# Altium footprint library SMP-MSLD-PCE-5T.PcbLib: 1 footprints
Each footprint in its own frame and in the unit in brackets; x right, y up, seen from the top. Pads: shape width x height; smd on the part's side, far side on the other; paste and mask are expansions set on the pad; w line width, h text height; cw(c..) or ccw(c..) is an arc to the next point about the centre after c.
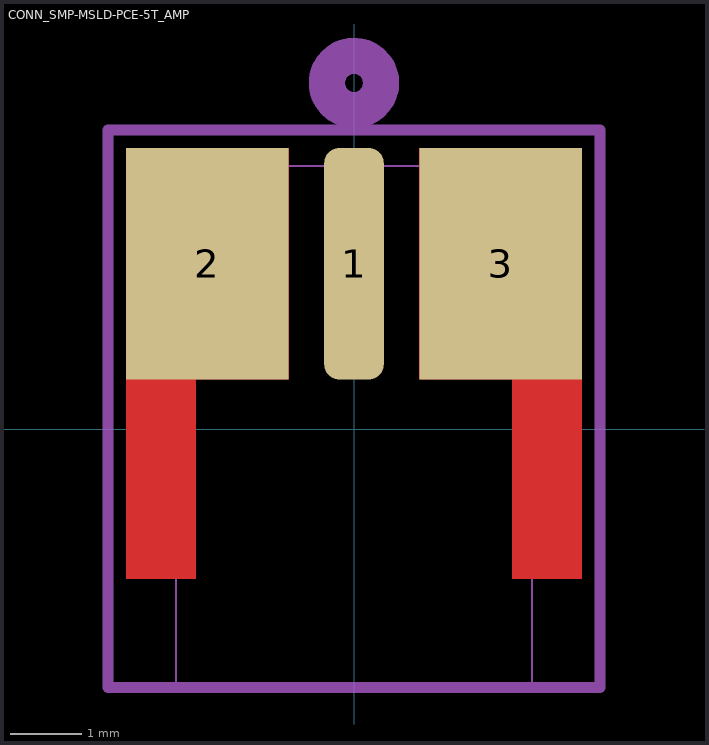
[diagram p0: the footprint, top view; thin cyan lines are the x and y axes]

## CONN_SMP-MSLD-PCE-5T_AMP [mil]
pads (3):
  rrect50% 33x128 smd: 1(0,91.5)
  rect 90x128 smd paste-64 mask-64: 2(-81.1,91.5) 3(81.1,91.5)
Top Layer:
  region: 36.1,27.5 36.1,155.5 126.1,155.5 126.1,-82.68 87.6,-82.68 87.6,27.5
  region: -126.06,-82.68 -126.1,155.5 -36.1,155.5 -36.1,27.5 -87.6,27.5 -87.6,-82.68
  region: -126.06,-82.68 -126.1,155.5 -36.1,155.5 -36.1,27.5 -87.6,27.5 -87.6,-82.68
Top Paste:
  region: -121.05,-74.8 -121.08,54.13 -42.32,54.13 -42.32,35.43 -92.52,35.43 -92.52,-74.8
  region: -42.32,79.72 -42.32,147.64 -121.06,147.64 -121.06,79.72
  region: 121.05,-74.8 121.08,54.13 42.32,54.13 42.32,35.43 92.52,35.43 92.52,-74.8
  region: 42.32,79.72 42.32,147.64 121.06,147.64 121.06,79.72
Top Solder:
  region: 36.1,27.5 36.1,155.5 126.1,155.5 126.1,-82.68 87.6,-82.68 87.6,27.5
Top Courtyard:
  lines w6: -136.1,-143 136.1,-143 136.1,165.5 -136.1,165.5 -136.1,-143
Mechanical 13:
  circle w20: c0,191.5 r15
  lines w1: -98.5,-145.5 -98.5,145.5 98.5,145.5 98.5,-145.5 -98.5,-145.5
3D body "SMP-MSLD-PCE-5T.stp": height 92.52, standoff -64.96, extent -98.41,-145 98.41,146.34